# EAGLE library part MT9P031 (library _RoweTel)
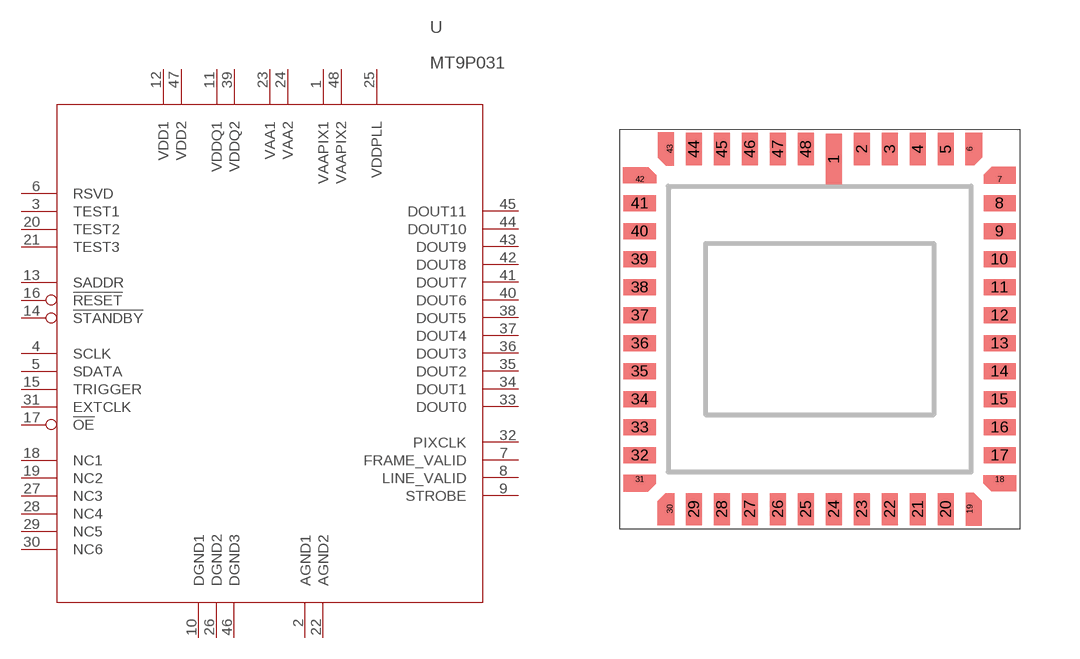
[diagram p46: symbol with the pads of MT9P031; footprint MT9P031]

Designator prefix U

## MT9P031  [MT9P031]
1  VAAPIX1
2  AGND1
3  TEST1
4  SCLK
5  SDATA
6  RSVD
7  FRAME_VALID
8  LINE_VALID
9  STROBE
10  DGND1
11  VDDQ1
12  VDD1
13  SADDR
14  !STANDBY
15  TRIGGER
16  !RESET
17  !OE
18  NC1
19  NC2
20  TEST2
21  TEST3
22  AGND2
23  VAA1
24  VAA2
25  VDDPLL
26  DGND2
27  NC3
28  NC4
29  NC5
30  NC6
31  EXTCLK
32  PIXCLK
33  DOUT0
34  DOUT1
35  DOUT2
36  DOUT3
37  DOUT4
38  DOUT5
39  VDDQ2
40  DOUT6
41  DOUT7
42  DOUT8
43  DOUT9
44  DOUT10
45  DOUT11
46  DGND3
47  VDD2
48  VAAPIX2

## Footprint MT9P031 (pad centres in mm)
smd 0.4 x 1.27: 1 0.35,4.25
smd 0.4 x 0.8: 2 1.05,4.5; 3 1.75,4.5; 4 2.45,4.5; 5 3.15,4.5; 20 3.15,-4.5; 21 2.45,-4.5; 22 1.75,-4.5; 23 1.05,-4.5; 24 0.35,-4.5; 25 -0.35,-4.5; 26 -1.05,-4.5; 27 -1.75,-4.5; 28 -2.45,-4.5; 29 -3.15,-4.5; 44 -3.15,4.5; 45 -2.45,4.5; 46 -1.75,4.5; 47 -1.05,4.5; 48 -0.35,4.5
smd 0.2 x 0.8: 6 3.75,4.5; 19 3.75,-4.5; 30 -3.75,-4.5; 43 -3.75,4.5
smd 0.8 x 0.2: 7 4.5,3.75; 18 4.5,-3.75; 31 -4.5,-3.75; 42 -4.5,3.75
smd 0.8 x 0.4: 8 4.5,3.15; 9 4.5,2.45; 10 4.5,1.75; 11 4.5,1.05; 12 4.5,0.35; 13 4.5,-0.35; 14 4.5,-1.05; 15 4.5,-1.75; 16 4.5,-2.45; 17 4.5,-3.15; 32 -4.5,-3.15; 33 -4.5,-2.45; 34 -4.5,-1.75; 35 -4.5,-1.05; 36 -4.5,-0.35; 37 -4.5,0.35; 38 -4.5,1.05; 39 -4.5,1.75; 40 -4.5,2.45; 41 -4.5,3.15